# EAGLE library part ADG1436 (library cdp)
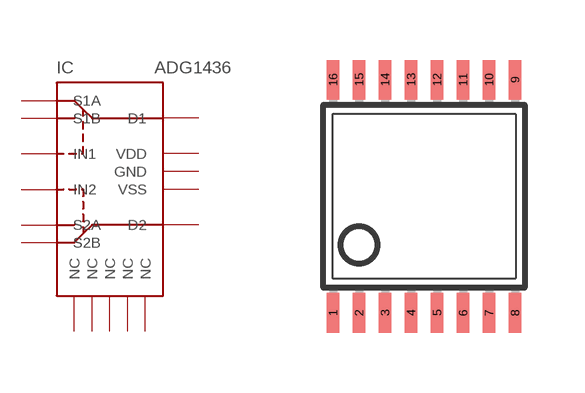
[diagram p10: symbol with the pads of TSSOP16; footprint TSSOP16]

Designator prefix IC

## ADG1436YRUZ  [TSSOP16]
1  IN1  in
2  S1A  in
3  D1  out
4  S1B  in
5  VSS  pwr
6  GND  pwr
7  NC  nc
8  NC  nc
9  IN2  in
10  S2A  in
11  D2  out
12  S2B  in
13  VDD  pwr
14  NC  nc
15  NC  nc
16  NC  nc

## Footprint TSSOP16 (pad centres in mm)
Thin Shrink Small Outline Plastic 16 MAX3223-MAX3243.pdf
smd 0.305 x 0.991: 1 -2.275,-2.918; 2 -1.625,-2.918; 3 -0.975,-2.918; 4 -0.325,-2.918; 5 0.325,-2.918; 6 0.975,-2.918; 7 1.625,-2.918; 8 2.275,-2.918; 9 2.275,2.918; 10 1.625,2.918; 11 0.975,2.918; 12 0.325,2.918; 13 -0.325,2.918; 14 -0.975,2.918; 15 -1.625,2.918; 16 -2.275,2.918